# Altium schematic symbol library WL-SWTP_3014.SchLib: 5 symbols
Pins are listed as number, name and electrical type; pins without a type are passive.

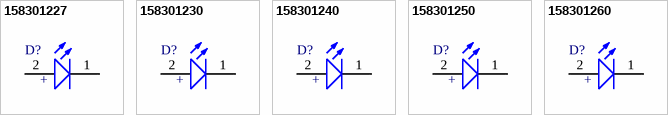
[diagram p0: symbols 158301227 to 158301260]

## 158301227
designator D?
WL-SWTP SMD White Top view PLCC, size 3014, Sunrise; Part Number: 158301227; Forward Voltage: 3 V; Viewing Angle: 120°; Luminous Flux: 7 lm; Color Rendering Index: 85; Published Date: Jan 2017; Publisher: Wurth Elektronik; ComponentLink1Description: Manufacturer; ComponentLink1URL: http://www.we-online.de; ComponentLink2Description: Datasheet; ComponentLink2URL: http://katalog.we-online.de/led/datasheet/158301227.pdf; Size: 3014; Emitting Color: Sunrise
footprint WL-SWTP_3014 (SMD White Top view PLCC, body 3x1.4)
pins: 1 K, 2 A
text: +

## 158301230
designator D?
WL-SWTP SMD White Top view PLCC, size 3014, Warm White; Part Number: 158301230; Forward Voltage: 3 V; Viewing Angle: 120°; Luminous Flux: 7 lm; Color Rendering Index: 85; Published Date: Jan 2017; Publisher: Wurth Elektronik; ComponentLink1Description: Manufacturer; ComponentLink1URL: http://www.we-online.de; ComponentLink2Description: Datasheet; ComponentLink2URL: http://katalog.we-online.de/led/datasheet/158301230.pdf; Size: 3014; Emitting Color: Warm White
footprint WL-SWTP_3014
pins: 1 K, 2 A
text: +

## 158301240
designator D?
WL-SWTP SMD White Top view PLCC, size 3014, Moonlight; Part Number: 158301240; Forward Voltage: 3 V; Viewing Angle: 120°; Luminous Flux: 7.5 lm; Color Rendering Index: 85; Published Date: Jan 2017; Publisher: Wurth Elektronik; ComponentLink1Description: Manufacturer; ComponentLink1URL: http://www.we-online.de; ComponentLink2Description: Datasheet; ComponentLink2URL: http://katalog.we-online.de/led/datasheet/158301240.pdf; Size: 3014; Emitting Color: Moonlight
footprint WL-SWTP_3014
pins: 1 K, 2 A
text: +

## 158301250
designator D?
WL-SWTP SMD White Top view PLCC, size 3014, Daylight; Part Number: 158301250; Forward Voltage: 3 V; Viewing Angle: 120°; Luminous Flux: 8 lm; Color Rendering Index: 85; Published Date: Jan 2017; Publisher: Wurth Elektronik; ComponentLink1Description: Manufacturer; ComponentLink1URL: http://www.we-online.de; ComponentLink2Description: Datasheet; ComponentLink2URL: http://katalog.we-online.de/led/datasheet/158301250.pdf; Size: 3014; Emitting Color: Daylight
footprint WL-SWTP_3014
pins: 1 K, 2 A
text: +

## 158301260
designator D?
WL-SWTP SMD White Top view PLCC, size 3014, Cool White; Part Number: 158301260; Forward Voltage: 3 V; Viewing Angle: 120°; Luminous Flux: 8 lm; Color Rendering Index: 90; Published Date: Jan 2017; Publisher: Wurth Elektronik; ComponentLink1Description: Manufacturer; ComponentLink1URL: http://www.we-online.de; ComponentLink2Description: Datasheet; ComponentLink2URL: http://katalog.we-online.de/led/datasheet/158301260.pdf; Size: 3014; Emitting Color: Cool White
footprint WL-SWTP_3014
pins: 1 K, 2 A
text: +